# Altium schematic symbol library NCP51820.SchLib: 1 symbol
Pins are listed as number, name and electrical type; pins without a type are passive.

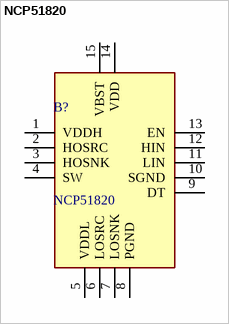
[diagram p0: symbol NCP51820]

## NCP51820
designator B?
High Speed Half-Bridge Driver for GaN Power Switches High-Speed 650V 200 V/ns dV/dt; Manufacturer_Name: onsemi; Geometry.Height: 0.9mm; Manufacturer_Part_Number: NCP51820; Mouser Part Number: N/A; Mouser Price/Stock: https://www.mouser.co.uk/ProductDetail/onsemi/NCP51820?qs=vEM7xhTegWhaPMdkL3AwCA%3D%3D; Arrow Part Number: *; Arrow Price/Stock: *; Datasheet Link: https://www.onsemi.com/download/data-sheet/pdf/ncp51820-d.pdf
footprint NCP51820
pins: 1 VDDH, 2 HOSRC, 3 HOSNK, 4 SW, 5 VDDL, 6 LOSRC, 7 LOSNK, 8 PGND, 9 DT, 10 SGND, 11 LIN, 12 HIN, 13 EN, 14 VDD, 15 VBST